# Altium footprint library con_molex_4_52207-0433.PcbLib: 1 footprints
Each footprint in its own frame and in the unit in brackets; x right, y up, seen from the top. Pads: shape width x height; smd on the part's side, far side on the other; paste and mask are expansions set on the pad; w line width, h text height; cw(c..) or ccw(c..) is an arc to the next point about the centre after c.
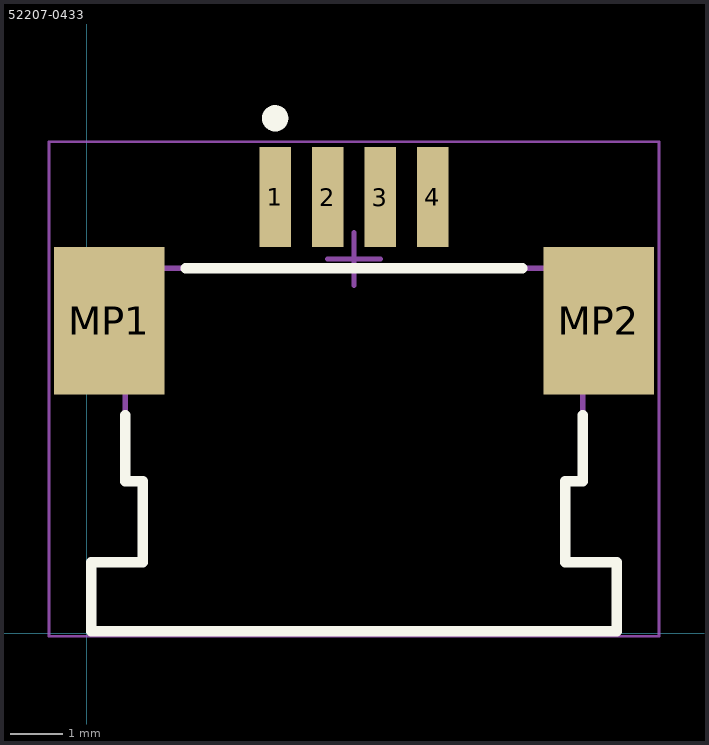
[diagram p0: the footprint, top view; thin cyan lines are the x and y axes]

## 52207-0433 [mm]
pads (6):
  rect 0.6x1.9 smd: 1(3.58,8.287) 2(4.58,8.287) 3(5.58,8.287) 4(6.58,8.287)
  rect 2.1x2.8 smd: MP1(0.43,5.937) MP2(9.73,5.937)
Top Overlay:
  circle w0.25: c3.58,9.787 r0.125
  lines w0.2: 0.73,4.137 0.73,2.887 ; 1.88,6.937 8.28,6.937 ; 9.43,4.137 9.43,2.887 ; 0.73,2.887 1.067,2.887 1.068,2.887 1.068,1.347 0.08,1.347 0.08,0.037 10.08,0.037 10.08,1.347 9.092,1.347 9.092,2.887 9.093,2.887 9.43,2.887 ; 0.73,2.887 0.73,2.887 ; 9.43,2.887 9.43,2.887
Top 3D Body:
  lines w0.1: -0.07,4.937 -0.07,6.937 10.23,6.937 10.23,4.937 9.43,4.937 9.43,2.887 9.092,2.887 9.092,1.347 10.08,1.347 10.08,0.037 0.08,0.037 0.08,1.347 1.068,1.347 1.068,2.887 0.73,2.887 0.73,4.937 -0.07,4.937
Top Courtyard:
  lines w0.05: -0.72,-0.063 -0.72,9.337 10.88,9.337 10.88,-0.063 -0.72,-0.063
  lines w0.1: 4.58,7.112 5.58,7.112 ; 5.08,6.612 5.08,7.612
3D body "522070433.stp": height 2.71, standoff 0.01, extent -0.07,0.037 10.23,8.937